# Altium footprint library SLW-107-01-X-D.PcbLib: 1 footprints
Each footprint in its own frame and in the unit in brackets; x right, y up, seen from the top. Pads: shape width x height; smd on the part's side, far side on the other; paste and mask are expansions set on the pad; w line width, h text height; cw(c..) or ccw(c..) is an arc to the next point about the centre after c.
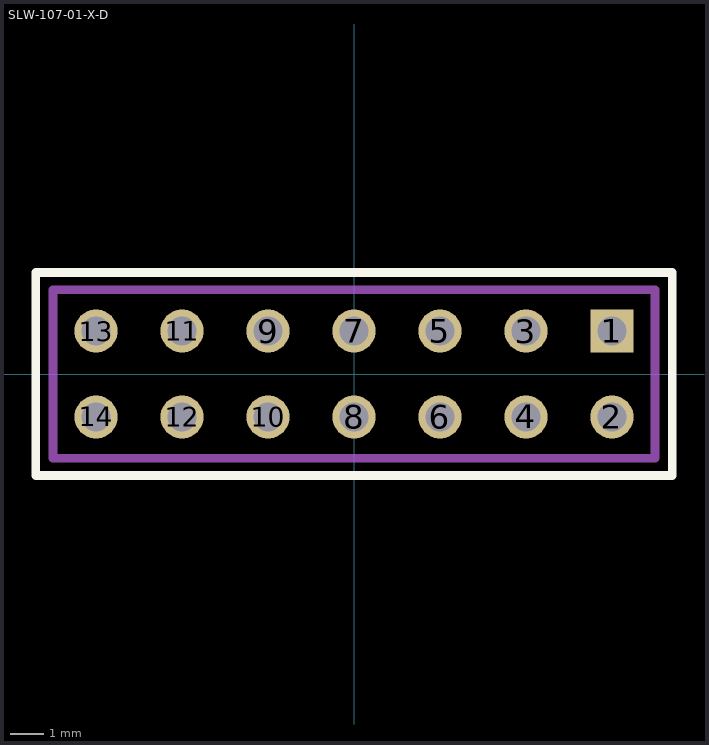
[diagram p0: the footprint, top view; thin cyan lines are the x and y axes]

## SLW-107-01-X-D [mil]
pads (14):
  rect 50x50 hole 34: 1(300,50)
  round 50 hole 34: 2(300,-50) 3(200,50) 4(200,-50) 5(100,50) 6(100,-50) 7(0,50) 8(0,-50) 9(-100,50) 10(-100,-50) 11(-200,50) 12(-200,-50) 13(-300,50) 14(-300,-50)
Top Overlay:
  lines w10: -370,-118 -370,118 370,118 370,-118 -370,-118
Mechanical 1:
  lines w10: -350,-98 -350,98 350,98 350,-98 -350,-98
3D body "SLW-107-01-G-D.stp": height 180, standoff -115, extent -350,-97.5 350,97.5